# Altium footprint library 音频插座.PcbLib: 13 footprints
Each footprint in its own frame and in the unit in brackets; x right, y up, seen from the top. Pads: shape width x height; smd on the part's side, far side on the other; paste and mask are expansions set on the pad; w line width, h text height; cw(c..) or ccw(c..) is an arc to the next point about the centre after c.
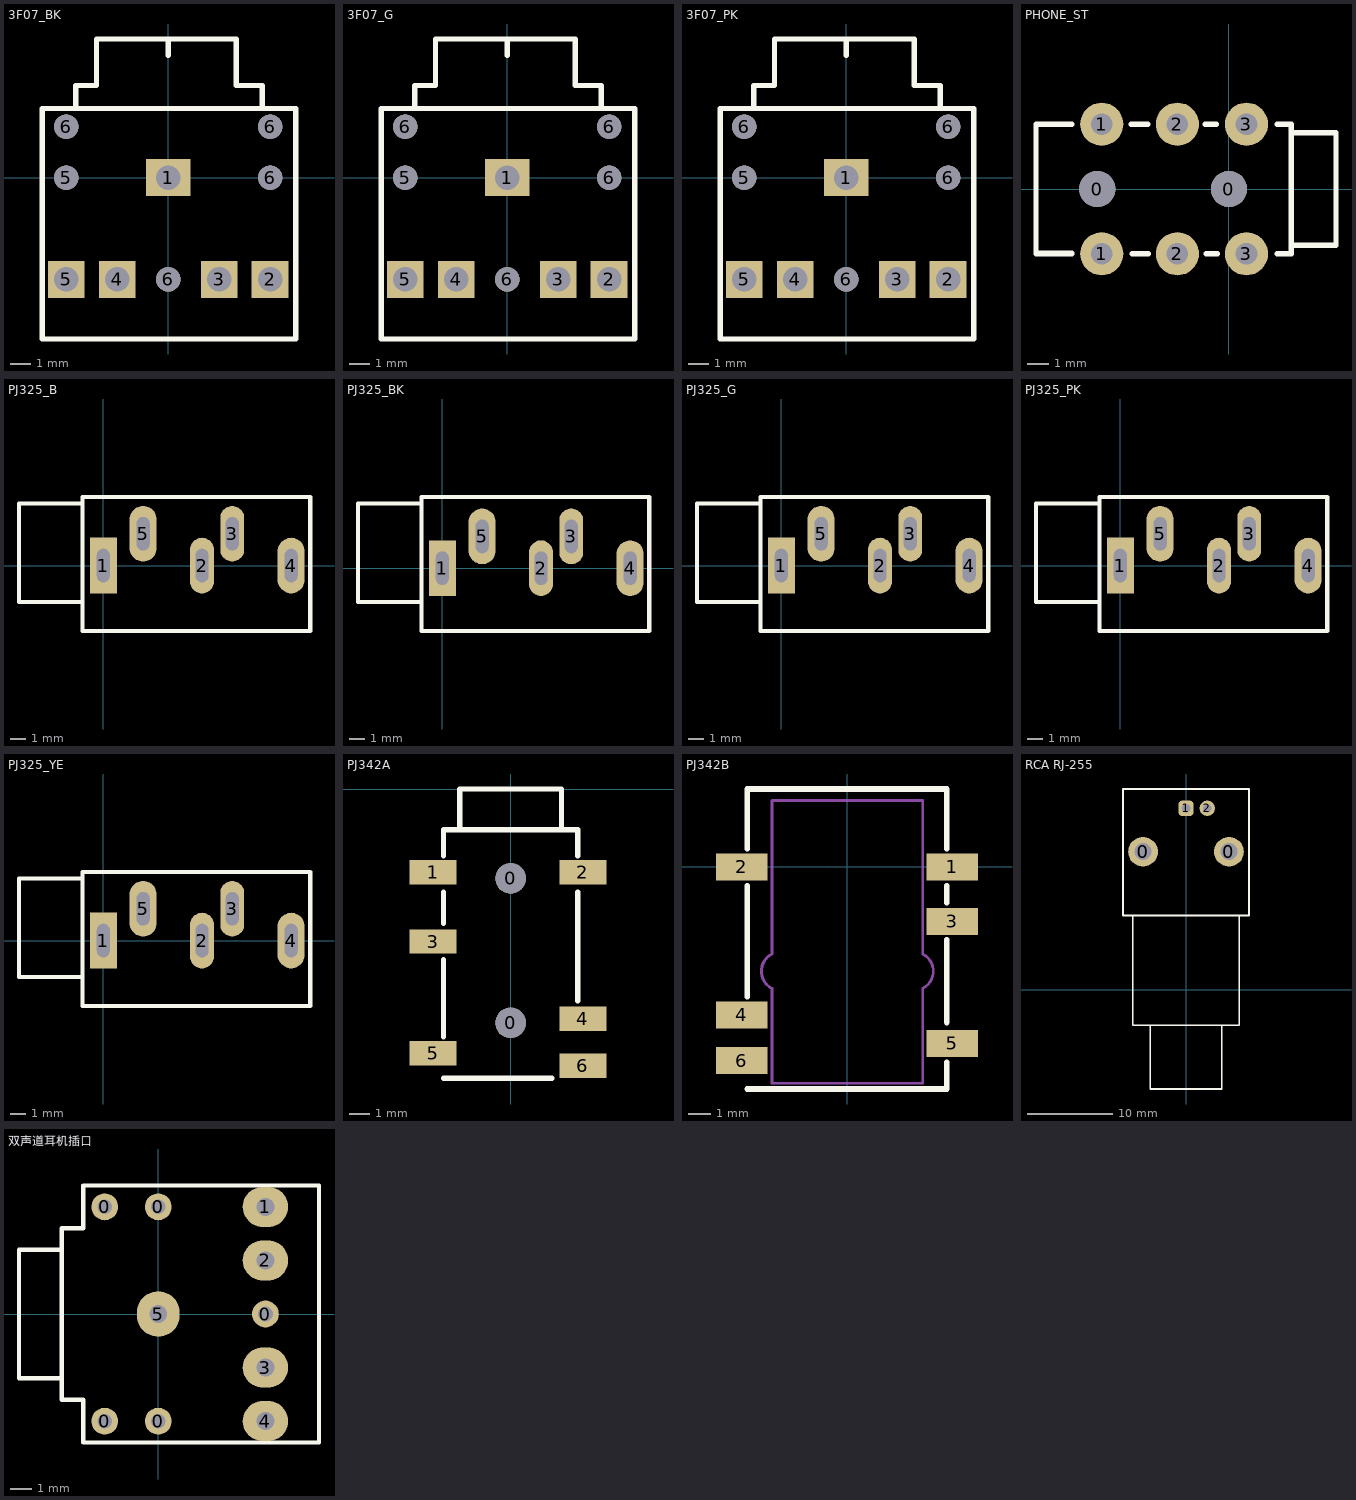
[diagram p0: the footprints below, top view; thin cyan lines are the x and y axes]

## 3F07_BK [mm] "黑色，14.2*12*5mm"
pads (10):
  rect 2.2x1.8 hole 1.2: 1(0,0)
  rect 1.8x1.8 hole 1.2: 2(5,-5) 3(2.5,-5) 4(-2.5,-5) 5(-5,-5)
  round 1.2 hole 1.2 unplated: 5(-5,0) 6(-5,2.5) 6(0,-5) 6(5,0) 6(5,2.5)
Top Overlay:
  lines w0.254: -4.532,3.382 -4.532,4.525 -3.516,4.525 -3.516,6.8 3.342,6.8 3.342,4.525 4.612,4.525 4.612,3.382 ; 0,6 0,6.8 ; -6.183,-7.921 -6.183,3.382 6.263,3.382 6.263,-7.921 -6.183,-7.921
3D body "3F07_BK-.STEP": height 5.6, standoff -2.9, extent -5.969,-7.735 6.031,6.465

## 3F07_G [mm] "绿色，14.2*12*5mm"
pads (10):
  rect 2.2x1.8 hole 1.2: 1(0,0)
  rect 1.8x1.8 hole 1.2: 2(5,-5) 3(2.5,-5) 4(-2.5,-5) 5(-5,-5)
  round 1.2 hole 1.2 unplated: 5(-5,0) 6(-5,2.5) 6(0,-5) 6(5,0) 6(5,2.5)
Top Overlay:
  lines w0.254: -4.532,3.382 -4.532,4.525 -3.516,4.525 -3.516,6.8 3.342,6.8 3.342,4.525 4.612,4.525 4.612,3.382 ; 0,6 0,6.8 ; -6.183,-7.921 -6.183,3.382 6.263,3.382 6.263,-7.921 -6.183,-7.921
3D body "3F07_G-.STEP": height 5.6, standoff -2.9, extent -5.969,-7.735 6.031,6.465

## 3F07_PK [mm] "粉色，14.2*12*5mm"
pads (10):
  rect 2.2x1.8 hole 1.2: 1(0,0)
  rect 1.8x1.8 hole 1.2: 2(5,-5) 3(2.5,-5) 4(-2.5,-5) 5(-5,-5)
  round 1.2 hole 1.2 unplated: 5(-5,0) 6(-5,2.5) 6(0,-5) 6(5,0) 6(5,2.5)
Top Overlay:
  lines w0.254: -4.532,3.382 -4.532,4.525 -3.516,4.525 -3.516,6.8 3.342,6.8 3.342,4.525 4.612,4.525 4.612,3.382 ; 0,6 0,6.8 ; -6.183,-7.921 -6.183,3.382 6.263,3.382 6.263,-7.921 -6.183,-7.921
3D body "3F07_PK-.STEP": height 5.6, standoff -2.9, extent -6.031,-7.608 5.969,6.592

## PHONE_ST [mm]
pads (8):
  round 1.676 hole 1.676: 0(-6.096,0) 0(0,0)
  round 2 hole 1: 1(-5.89,-3) 1(-5.89,3) 2(-2.39,-3) 2(-2.39,3) 3(0.81,-3) 3(0.81,3)
Top Overlay:
  lines w0.254: -8.933,-2.969 -7.282,-2.969 ; -7.282,-3.007 -8.933,-3.007 -8.933,3 -7.282,3 ; -4.526,3 -3.764,3 ; -4.488,-3.007 -3.726,-3.007 ; -1.097,3 -0.589,3 ; -1.059,-3.007 -0.551,-3.007 ; 2.243,-3.007 2.79,-3.007 ; 2.243,3 2.878,3 2.878,-3.007 ; 2.878,-2.6 4.953,-2.6 4.953,2.6 2.878,2.6

## PJ325_B [mm] "蓝色，18*8.1*12.3mm"
pads (5):
  rect 1.7x3.5 hole 0.8 slot 2.1 at 90 deg: 1(0,0)
  oval 1.5x3.5 hole 0.8 slot 2.1 at 90 deg: 2(6.2,0) 3(8.1,2)
  oval 1.7x3.5 hole 0.8 slot 2.1 at 90 deg: 4(11.8,0) 5(2.5,2)
Top Overlay:
  lines w0.254: -1.3,-2.3 -5.3,-2.3 -5.3,3.9 -1.3,3.9 ; -1.3,-4.1 -1.3,4.3 13,4.3 13,-4.1 -1.3,-4.1
3D body "PJ325_B-.STEP": height 12.35, standoff -2.9, extent -5.203,-3.923 12.827,4.177

## PJ325_BK [mm] "黑色，18*8.1*12.3mm"
pads (5):
  rect 1.7x3.5 hole 0.8 slot 2.1 at 90 deg: 1(0,0)
  oval 1.5x3.5 hole 0.8 slot 2.1 at 90 deg: 2(6.2,0) 3(8.1,2)
  oval 1.7x3.5 hole 0.8 slot 2.1 at 90 deg: 4(11.8,0) 5(2.5,2)
Top Overlay:
  lines w0.254: -1.3,-2.136 -5.3,-2.136 -5.3,4.064 -1.3,4.064 ; -1.3,-3.936 13,-3.936 13,4.464 -1.3,4.464 -1.3,-3.936
3D body "PJ325_BK-.STEP": height 12.35, standoff -2.9, extent -5.203,-3.923 12.827,4.177

## PJ325_G [mm] "绿色，18*8.1*12.3mm"
pads (5):
  rect 1.7x3.5 hole 0.8 slot 2.1 at 90 deg: 1(0,0)
  oval 1.5x3.5 hole 0.8 slot 2.1 at 90 deg: 2(6.2,0) 3(8.1,2)
  oval 1.7x3.5 hole 0.8 slot 2.1 at 90 deg: 4(11.8,0) 5(2.5,2)
Top Overlay:
  lines w0.254: -1.3,-2.3 -5.3,-2.3 -5.3,3.9 -1.3,3.9 ; -1.3,-4.1 -1.3,4.3 13,4.3 13,-4.1 -1.3,-4.1
3D body "PJ325_G-.STEP": height 12.35, standoff -2.9, extent -5.205,-3.937 12.825,4.163

## PJ325_PK [mm] "粉色，18*8.1*12.3mm"
pads (5):
  rect 1.7x3.5 hole 0.8 slot 2.1 at 90 deg: 1(0,0)
  oval 1.5x3.5 hole 0.8 slot 2.1 at 90 deg: 2(6.2,0) 3(8.1,2)
  oval 1.7x3.5 hole 0.8 slot 2.1 at 90 deg: 4(11.8,0) 5(2.5,2)
Top Overlay:
  lines w0.254: -1.3,-2.3 -5.3,-2.3 -5.3,3.9 -1.3,3.9 ; -1.3,-4.1 -1.3,4.3 13,4.3 13,-4.1 -1.3,-4.1
3D body "PJ325_PK-.STEP": height 12.35, standoff -2.9, extent -5.205,-3.909 12.825,4.191

## PJ325_YE [mm] "黄色，18*8.1*12.3mm"
pads (5):
  rect 1.7x3.5 hole 0.8 slot 2.1 at 90 deg: 1(0,0)
  oval 1.5x3.5 hole 0.8 slot 2.1 at 90 deg: 2(6.2,0) 3(8.1,2)
  oval 1.7x3.5 hole 0.8 slot 2.1 at 90 deg: 4(11.8,0) 5(2.5,2)
Top Overlay:
  lines w0.254: -1.3,-2.3 -5.3,-2.3 -5.3,3.9 -1.3,3.9 ; -1.3,-4.1 -1.3,4.3 13,4.3 13,-4.1 -1.3,-4.1
3D body "PJ325_YE-.STEP": height 12.35, standoff -2.9, extent -5.205,-3.937 12.825,4.163

## PJ342A [mm] "有头"
pads (8):
  round 1.5 hole 1.5: 0(0,-11.5) 0(0,-4.4)
  rect 2.3x1.2 smd: 1(-3.81,-4.1) 2(3.556,-4.1) 3(-3.81,-7.5) 4(3.556,-11.3) 5(-3.81,-13) 6(3.556,-13.6)
Top Overlay:
  lines w0.254: -3.302,-14.224 2.032,-14.224 ; -3.302,-12.192 -3.302,-8.382 ; -3.302,-6.604 -3.302,-5.08 ; -3.302,-3.302 -3.302,-2 3.302,-2 3.302,-3.302 ; -2.5,-2 -2.5,0 2.5,0 2.5,-2 ; 3.302,-10.414 3.302,-5.08
3D body "PJ342A-.STEP": height 4.7, standoff -0.6, extent -4.191,-14.162 4.109,-0.062

## PJ342B [mm] "沉板式，无头"
pads (6):
  rect 2.3x1.2 smd: 1(4.699,0) 2(-4.699,0) 3(4.699,-2.43) 4(-4.699,-6.604) 5(4.699,-7.874) 6(-4.699,-8.636)
Top Overlay:
  lines w0.254: -4.445,-9.906 4.445,-9.906 4.445,-9.476 4.445,-8.714 ; -4.445,-5.793 -4.445,-0.84 ; -4.445,0.811 -4.445,3.478 4.445,3.478 4.445,0.811 ; 4.445,-6.936 4.445,-3.253 ; 4.445,-1.602 4.445,-0.84
Mechanical 1:
  lines w0.127: -3.353,-9.652 3.378,-9.652 3.378,-5.412 ccw(c2.997,-4.65) 3.378,-3.888 3.378,2.97 -3.353,2.97 -3.353,-3.888 ccw(c-2.972,-4.65) -3.353,-5.412 -3.353,-9.652
3D body "PJ342B-.STEP": height 1.25, standoff -2.75, extent -4.572,-9.285 4.928,3.697

## RCA RJ-255 [mm] "RCA莲花头AV接口座"
pads (4):
  round 3.5 hole 2: 0(-5.05,16.212) 0(5.05,16.212)
  rrect50% 1.8x1.8 hole 1: 1(0,21.312)
  round 1.8 hole 1: 2(2.5,21.312)
Top Overlay:
  lines w0.203: -6.25,8.7 -6.25,-4.2 6.25,-4.2 6.25,8.7 ; -4.2,-4.2 -4.2,-8.4 -4.2,-11.684 4.2,-11.684 4.2,-4.2 ; -7.417,8.7 7.417,8.7 7.417,23.584 -7.417,23.584 -7.417,8.7
3D body "RCA RJ-255-.STEP": height 13.95, standoff -5.35, extent -7.366,-11.708 7.334,23.392

## 双声道耳机插口 [mm]
height 5
pads (10):
  round 1.27 hole 0.7: 0(-2.54,-5.08) 0(-2.54,5.08) 0(0,-5.08) 0(0,5.08) 0(5.08,0)
  oval 2.159x1.905 hole 0.85: 1(5.08,5.08) 2(5.08,2.54) 3(5.08,-2.54) 4(5.08,-5.08)
  oval 2.032x2.159 hole 0.85: 5(0,0)
Top Overlay:
  lines w0.203: -4.572,-3.048 -6.604,-3.048 -6.604,3.048 -4.572,3.048 ; -4.572,-4.064 -4.572,4.064 -3.556,4.064 -3.556,6.096 7.62,6.096 7.62,-6.096 -3.556,-6.096 -3.556,-4.064 -4.572,-4.064
3D body: height 5, standoff 0.03, extent -3.556,-6.096 7.62,6.096
3D body: height 5, standoff 0.03, extent -4.572,-4.064 -3.556,4.064
3D body: height 5.99, standoff 0.01, extent -5.572,-2.988 -4.572,2.988
3D body: height 5.99, standoff 0.01, extent -6.588,-2.988 -5.588,2.988
3D body: height 4.8, standoff 1.2, extent -6.604,-1.808 -5.604,1.778
3D body: height 2.24, standoff -0.76, extent -0.305,4.781 0.294,5.379
3D body: height 2.24, standoff -0.76, extent -2.845,4.781 -2.246,5.379
3D body: height 2.24, standoff -0.76, extent -2.845,-5.379 -2.246,-4.781
3D body: height 2.24, standoff -0.76, extent -0.305,-5.379 0.294,-4.781
3D body: height 2.24, standoff -0.76, extent 4.775,-0.299 5.374,0.299
3D body: height 2.24, standoff -0.76, extent 4.58,4.584 5.578,5.58
3D body: height 2.24, standoff -0.76, extent 4.58,2.084 5.578,3.08
3D body: height 2.24, standoff -0.76, extent 4.58,-3.036 5.578,-2.04
3D body: height 2.24, standoff -0.76, extent 4.58,-5.576 5.578,-4.58
3D body: height 2.24, standoff -0.76, extent -0.5,-0.496 0.498,0.5